# EAGLE library part PIBOY_961240-6300-AR-PR (library piboy_new)
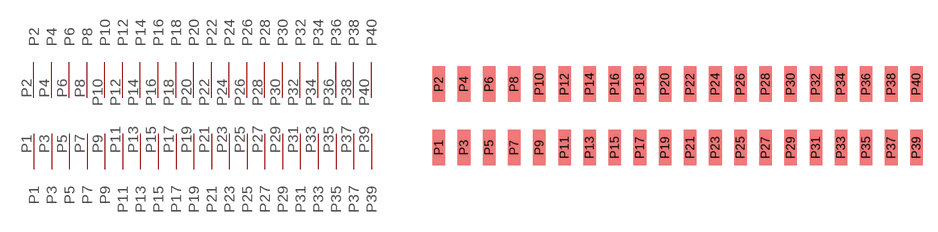
[diagram p3: symbol with the pads of PIBOY_961240-6300-AR-PR; footprint PIBOY_961240-6300-AR-PR]

Designator prefix -

## PIBOY_961240-6300-AR-PR  [PIBOY_961240-6300-AR-PR]
P1  P1
P2  P2
P3  P3
P4  P4
P5  P5
P6  P6
P7  P7
P8  P8
P9  P9
P10  P10
P11  P11
P12  P12
P13  P13
P14  P14
P15  P15
P16  P16
P17  P17
P18  P18
P19  P19
P20  P20
P21  P21
P22  P22
P23  P23
P24  P24
P25  P25
P26  P26
P27  P27
P28  P28
P29  P29
P30  P30
P31  P31
P32  P32
P33  P33
P34  P34
P35  P35
P36  P36
P37  P37
P38  P38
P39  P39
P40  P40

## Footprint PIBOY_961240-6300-AR-PR (pad centres in mm)
smd 1.27 x 3.6: P1 -24.13,-3.2; P2 -24.13,3.2; P3 -21.59,-3.2; P4 -21.59,3.2; P5 -19.05,-3.2; P6 -19.05,3.2; P7 -16.51,-3.2; P8 -16.51,3.2; P9 -13.97,-3.2; P10 -13.97,3.2; P11 -11.43,-3.2; P12 -11.43,3.2; P13 -8.89,-3.2; P14 -8.89,3.2; P15 -6.35,-3.2; P16 -6.35,3.2; P17 -3.81,-3.2; P18 -3.81,3.2; P19 -1.27,-3.2; P20 -1.27,3.2; P21 1.27,-3.2; P22 1.27,3.2; P23 3.81,-3.2; P24 3.81,3.2; P25 6.35,-3.2; P26 6.35,3.2; P27 8.89,-3.2; P28 8.89,3.2; P29 11.43,-3.2; P30 11.43,3.2; P31 13.97,-3.2; P32 13.97,3.2; P33 16.51,-3.2; P34 16.51,3.2; P35 19.05,-3.2; P36 19.05,3.2; P37 21.59,-3.2; P38 21.59,3.2; P39 24.13,-3.2; P40 24.13,3.2